# Altium schematic symbol library AtTiny85.SchLib: 6 symbols
Pins are listed as number, name and electrical type; pins without a type are passive.

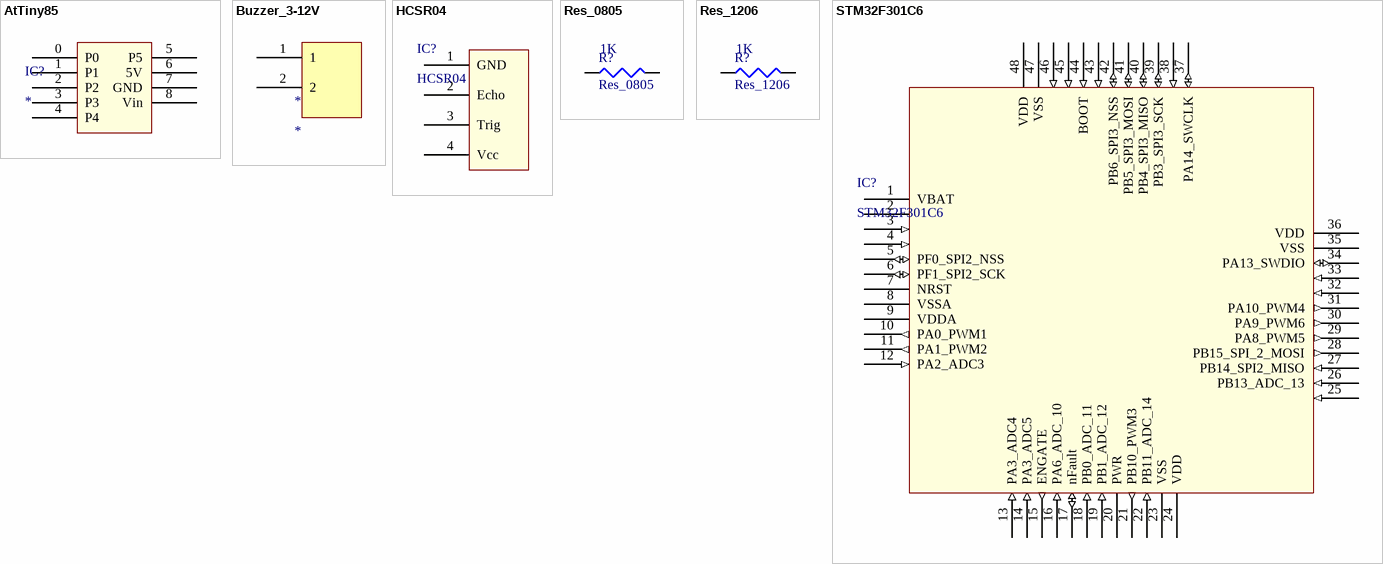
[diagram p0: symbols AtTiny85 to STM32F301C6]

## AtTiny85
designator IC?
AtTiny85
footprint AtTiny85
pins: 0 P0, 1 P1, 2 P2, 3 P3, 4 P4, 5 P5, 6 5V, 7 GND, 8 Vin

## Buzzer_3-12V
designator *
footprint Buzzer
pins: 1 "+", 2 "-"

## HCSR04
designator IC?
footprint HCSR04
pins: 1 GND, 2 Echo, 3 Trig, 4 Vcc

## Res_0805
designator R?  value 1K
Resistor; Published: 8-Jun-2000; LatestRevisionDate: 29-May-2009; LatestRevisionNote: IPC-7351 Footprint Added.; PackageReference: J1-0603; Publisher: Altium Limited; PackageDescription: Chip Resistor
simulation model RESISTOR (Resistor)
signal-integrity model Res
footprint RES_0805 (Chip Resistor, 2-Leads, Body 1,95x1,22mm, IPC Medium Density)
pins: 1, 2

## Res_1206
designator R?  value 1K
Resistor; Published: 8-Jun-2000; LatestRevisionDate: 29-May-2009; LatestRevisionNote: IPC-7351 Footprint Added.; PackageReference: J1-0603; Publisher: Altium Limited; PackageDescription: Chip Resistor
simulation model RESISTOR (Resistor)
signal-integrity model Res
footprint RES_1206 (Chip Resistor, 2-Leads, Body 3,15x1,55mm, IPC Medium Density)
pins: 1, 2

## STM32F301C6
designator IC?
footprint LQFP48-7x7mm
pins: 1 VBAT (power), 2, 3 (in), 4 (in), 5 PF0_SPI2_NSS (io), 6 PF1_SPI2_SCK (io), 7 NRST (power), 8 VSSA (power), 9 VDDA (power), 10 PA0_PWM1 (out), 11 PA1_PWM2 (out), 12 PA2_ADC3 (in), 13 PA3_ADC4 (in), 14 PA3_ADC5 (in), 15 ENGATE (out), 16 PA6_ADC_10 (in), 17 nFault (io), 18 PB0_ADC_11 (in), 19 PB1_ADC_12 (in), 20 PWR, 21 PB10_PWM3 (out), 22 PB11_ADC_14 (in), 23 VSS (power), 24 VDD (power), 25 (in), 26 PB13_ADC_13 (in), 27 PB14_SPI2_MISO (in), 28 PB15_SPI_2_MOSI (out), 29 PA8_PWM5 (out), 30 PA9_PWM6 (out), 31 PA10_PWM4 (out), 32 (in), 33 (in), 34 PA13_SWDIO (io), 35 VSS (power), 36 VDD (power), 37 PA14_SWCLK (io), 38 (in), 39 PB3_SPI3_SCK (io), 40 PB4_SPI3_MISO (io), 41 PB5_SPI3_MOSI (io), 42 PB6_SPI3_NSS (io), 43 (in), 44 BOOT (in), 45 (in), 46 (in), 47 VSS (power), 48 VDD (power)